# EAGLE library part 690368171072 (library power_distribution)
Würth Mini Module Female Connector w/o Latch & w/o Polarization
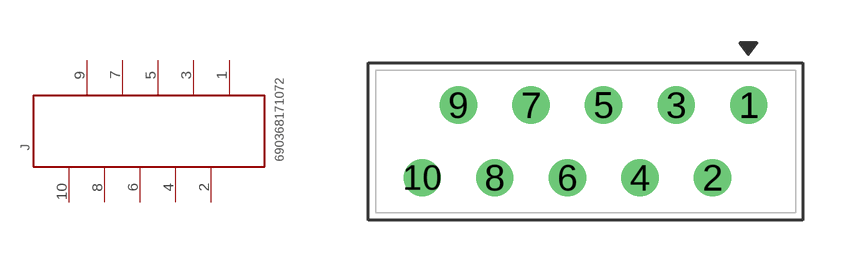
[diagram p8: symbol with the pads of 690368171072; footprint 690368171072]

Designator prefix J

## 690368171072 (MF: Würth Elektronik; MPN: 690368171072)  [690368171072]
1  10  pas
2  9  pas
3  8  pas
4  7  pas
5  6  pas
6  5  pas
7  4  pas
8  3  pas
9  2  pas
10  1  pas

## Footprint 690368171072 (pad centres in mm)
WR-MM Female Angled Connector with Polarization and without Latch, 10 Pins
drill 0.8: 1 5.715,1.27; 2 4.445,-1.27; 3 3.175,1.27; 4 1.905,-1.27; 5 0.635,1.27; 6 -0.635,-1.27; 7 -1.905,1.27; 8 -3.175,-1.27; 9 -4.445,1.27; 10 -5.715,-1.27